# Altium footprint library Footprint.PcbLib: 4 footprints
Each footprint in its own frame and in the unit in brackets; x right, y up, seen from the top. Pads: shape width x height; smd on the part's side, far side on the other; paste and mask are expansions set on the pad; w line width, h text height; cw(c..) or ccw(c..) is an arc to the next point about the centre after c.
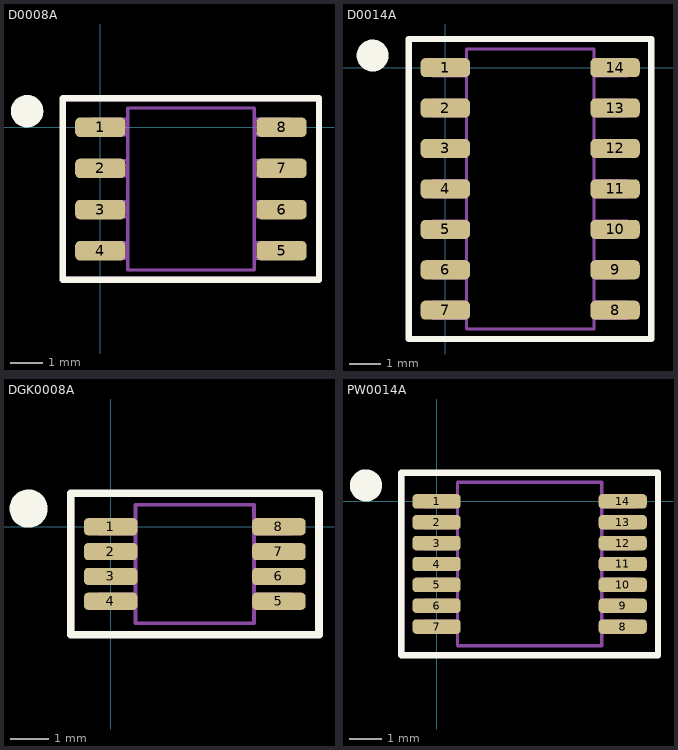
[diagram p0: the footprints below, top view; thin cyan lines are the x and y axes]

## D0008A [mm] "SOIC, 8-Leads, Body 5.00x3.90 mm, IPC Medium Density"
height 1.75
pads (8):
  rrect50% 1.55x0.6 smd mask+0.07: 1(0,0) 2(0,-1.27) 3(0,-2.54) 4(0,-3.81) 5(5.588,-3.81) 6(5.588,-2.54) 7(5.588,-1.27) 8(5.588,0)
Top Overlay:
  circle w0.5: c-2.256,0.495 r0.25
  lines w0.2: -1.156,-4.705 6.744,-4.705 6.744,0.895 -1.156,0.895 -1.156,-4.705
Top Pattern:
  lines w0.1: 0.294,-4.04 0.294,-3.565 ; 0.294,-2.77 0.294,-2.295 ; 0.294,-1.5 0.294,-1.025 ; 0.294,-0.23 0.294,0.245 ; 0.844,-4.04 -0.256,-4.04 -0.256,-3.565 0.844,-3.565 ; 0.844,-2.77 -0.256,-2.77 -0.256,-2.295 0.844,-2.295 ; 0.844,-1.5 -0.256,-1.5 -0.256,-1.025 0.844,-1.025 ; 0.844,-0.23 -0.256,-0.23 -0.256,0.245 0.844,0.245 ; 4.744,-4.04 5.844,-4.04 5.844,-3.565 4.744,-3.565 ; 4.744,-2.77 5.844,-2.77 5.844,-2.295 4.744,-2.295 ; 4.744,-1.5 5.844,-1.5 5.844,-1.025 4.744,-1.025 ; 4.744,-0.23 5.844,-0.23 5.844,0.245 4.744,0.245 ; 5.294,-4.04 5.294,-3.565 ; 5.294,-2.77 5.294,-2.295 ; 5.294,-1.5 5.294,-1.025 ; 5.294,-0.23 5.294,0.245 ; 0.844,-4.405 0.844,0.595 4.744,0.595 4.744,-4.405 0.844,-4.405
  text ".Designator" at -1.256,1.32 h1.52
Courtyard:
  lines w0.1: -1.106,-4.655 6.694,-4.655 6.694,0.845 -1.106,0.845 -1.106,-4.655
3D body "D0008A.step": height 1.75, standoff 0, extent -0.256,-4.405 5.844,0.595

## D0014A [mm] "SOIC, 14-Leads, Body 8.75x4.00 mm, IPC Medium Density"
height 1.75
pads (14):
  rrect50% 1.55x0.6 smd mask+0.07: 1(0,0) 2(0,-1.27) 3(0,-2.54) 4(0,-3.81) 5(0,-5.08) 6(0,-6.35) 7(0,-7.62) 8(5.334,-7.62) 9(5.334,-6.35) 10(5.334,-5.08) 11(5.334,-3.81) 12(5.334,-2.54) 13(5.334,-1.27) 14(5.334,0)
Top Overlay:
  circle w0.5: c-2.286,0.381 r0.25
  lines w0.2: -1.15,-8.525 6.475,-8.525 6.475,0.9 -1.15,0.9 -1.15,-8.525
Top Pattern:
  lines w0.1: 0.127,-7.874 0.127,-7.366 ; 0.127,-6.604 0.127,-6.096 ; 0.127,-5.334 0.127,-4.826 ; 0.127,-4.064 0.127,-3.556 ; 0.127,-2.794 0.127,-2.286 ; 0.127,-1.524 0.127,-1.016 ; 0.127,-0.254 0.127,0.254 ; 0.635,-7.874 -0.381,-7.874 -0.381,-7.366 0.635,-7.366 ; 0.635,-6.604 -0.381,-6.604 -0.381,-6.096 0.635,-6.096 ; 0.635,-5.334 -0.381,-5.334 -0.381,-4.826 0.635,-4.826 ; 0.635,-4.064 -0.381,-4.064 -0.381,-3.556 0.635,-3.556 ; 0.635,-2.794 -0.381,-2.794 -0.381,-2.286 0.635,-2.286 ; 0.635,-1.524 -0.381,-1.524 -0.381,-1.016 0.635,-1.016 ; 0.635,-0.254 -0.381,-0.254 -0.381,0.254 0.635,0.254 ; 4.699,-7.874 5.715,-7.874 5.715,-7.366 4.699,-7.366 ; 4.699,-6.604 5.715,-6.604 5.715,-6.096 4.699,-6.096 ; 4.699,-5.334 5.715,-5.334 5.715,-4.826 4.699,-4.826 ; 4.699,-4.064 5.715,-4.064 5.715,-3.556 4.699,-3.556 ; 4.699,-2.794 5.715,-2.794 5.715,-2.286 4.699,-2.286 ; 4.699,-1.524 5.715,-1.524 5.715,-1.016 4.699,-1.016 ; 4.699,-0.254 5.715,-0.254 5.715,0.254 4.699,0.254 ; 5.207,-7.874 5.207,-7.366 ; 5.207,-6.604 5.207,-6.096 ; 5.207,-5.334 5.207,-4.826 ; 5.207,-4.064 5.207,-3.556 ; 5.207,-2.794 5.207,-2.286 ; 5.207,-1.524 5.207,-1.016 ; 5.207,-0.254 5.207,0.254 ; 0.667,-8.21 4.667,-8.21 4.667,0.59 0.667,0.59 0.667,-8.21
  text ".Designator" at -1.25,1.3 h1.52
Courtyard:
  lines w0.1: -1.1,-8.475 -1.1,0.85 6.425,0.85 6.425,-8.475 -1.1,-8.475
3D body "D0014A.step": height 1.75, standoff 0, extent -0.433,-8.185 5.767,0.565

## DGK0008A [mm] "VSSOP, 8-Leads, Body 3.10x3.10 mm, IPC Medium Density"
height 1.1
pads (8):
  rrect50% 1.4x0.45 smd mask+0.045: 1(0,0) 2(0,-0.65) 3(0,-1.3) 4(0,-1.95) 5(4.4,-1.95) 6(4.4,-1.3) 7(4.4,-0.65) 8(4.4,0)
Top Overlay:
  circle w0.5: c-2.15,0.475 r0.25
  lines w0.2: -1.05,-2.825 -1.05,0.875 5.45,0.875 5.45,-2.825 -1.05,-2.825
Top Pattern:
  lines w0.1: 0.175,-2.125 0.175,-1.775 ; 0.175,-1.475 0.175,-1.125 ; 0.175,-0.825 0.175,-0.475 ; 0.175,-0.175 0.175,0.175 ; 0.65,-2.125 -0.3,-2.125 -0.3,-1.775 0.65,-1.775 ; 0.65,-1.475 -0.3,-1.475 -0.3,-1.125 0.65,-1.125 ; 0.65,-0.825 -0.3,-0.825 -0.3,-0.475 0.65,-0.475 ; 0.65,-0.175 -0.3,-0.175 -0.3,0.175 0.65,0.175 ; 3.75,-2.125 4.7,-2.125 4.7,-1.775 3.75,-1.775 ; 3.75,-1.475 4.7,-1.475 4.7,-1.125 3.75,-1.125 ; 3.75,-0.825 4.7,-0.825 4.7,-0.475 3.75,-0.475 ; 3.75,-0.175 4.7,-0.175 4.7,0.175 3.75,0.175 ; 4.225,-2.125 4.225,-1.775 ; 4.225,-1.475 4.225,-1.125 ; 4.225,-0.825 4.225,-0.475 ; 4.225,-0.175 4.225,0.175 ; 0.65,-2.525 0.65,0.575 3.75,0.575 3.75,-2.525 0.65,-2.525
  text ".Designator" at -1.15,1.3 h1.52
Courtyard:
  lines w0.1: -1,-2.775 5.4,-2.775 5.4,0.825 -1,0.825 -1,-2.775
3D body "DGK0008A.step": height 1.1, standoff 0, extent -0.3,-2.525 4.7,0.575

## PW0014A [mm] "TSSOP, 14-Leads, Body 5.10x4.50 mm, IPC Medium Density"
height 1.2
pads (14):
  rrect50% 1.5x0.45 smd mask+0.045: 1(0,0) 2(0,-0.65) 3(0,-1.3) 4(0,-1.95) 5(0,-2.6) 6(0,-3.25) 7(0,-3.9) 8(5.8,-3.9) 9(5.8,-3.25) 10(5.8,-2.6) 11(5.8,-1.95) 12(5.8,-1.3) 13(5.8,-0.65) 14(5.8,0)
Top Overlay:
  circle w0.5: c-2.2,0.5 r0.25
  lines w0.2: -1.1,-4.8 -1.1,0.9 6.9,0.9 6.9,-4.8 -1.1,-4.8
Top Pattern:
  lines w0.1: 0.125,-4.075 0.125,-3.725 ; 0.125,-3.425 0.125,-3.075 ; 0.125,-2.775 0.125,-2.425 ; 0.125,-2.125 0.125,-1.775 ; 0.125,-1.475 0.125,-1.125 ; 0.125,-0.825 0.125,-0.475 ; 0.125,-0.175 0.125,0.175 ; 0.65,-4.075 -0.4,-4.075 -0.4,-3.725 0.65,-3.725 ; 0.65,-3.425 -0.4,-3.425 -0.4,-3.075 0.65,-3.075 ; 0.65,-2.775 -0.4,-2.775 -0.4,-2.425 0.65,-2.425 ; 0.65,-2.125 -0.4,-2.125 -0.4,-1.775 0.65,-1.775 ; 0.65,-1.475 -0.4,-1.475 -0.4,-1.125 0.65,-1.125 ; 0.65,-0.825 -0.4,-0.825 -0.4,-0.475 0.65,-0.475 ; 0.65,-0.175 -0.4,-0.175 -0.4,0.175 0.65,0.175 ; 5.15,-4.075 6.2,-4.075 6.2,-3.725 5.15,-3.725 ; 5.15,-3.425 6.2,-3.425 6.2,-3.075 5.15,-3.075 ; 5.15,-2.775 6.2,-2.775 6.2,-2.425 5.15,-2.425 ; 5.15,-2.125 6.2,-2.125 6.2,-1.775 5.15,-1.775 ; 5.15,-1.475 6.2,-1.475 6.2,-1.125 5.15,-1.125 ; 5.15,-0.825 6.2,-0.825 6.2,-0.475 5.15,-0.475 ; 5.15,-0.175 6.2,-0.175 6.2,0.175 5.15,0.175 ; 5.675,-4.075 5.675,-3.725 ; 5.675,-3.425 5.675,-3.075 ; 5.675,-2.775 5.675,-2.425 ; 5.675,-2.125 5.675,-1.775 ; 5.675,-1.475 5.675,-1.125 ; 5.675,-0.825 5.675,-0.475 ; 5.675,-0.175 5.675,0.175 ; 0.65,-4.5 5.15,-4.5 5.15,0.6 0.65,0.6 0.65,-4.5
  text ".Designator" at -1.2,1.325 h1.52
Courtyard:
  lines w0.1: -1.05,-4.75 -1.05,0.85 6.85,0.85 6.85,-4.75 -1.05,-4.75
3D body "PW0014A.step": height 1.2, standoff 0, extent -0.4,-4.5 6.2,0.6